# Altium footprint library Switch-Switch.PCBLIB: 4 footprints
Each footprint in its own frame and in the unit in brackets; x right, y up, seen from the top. Pads: shape width x height; smd on the part's side, far side on the other; paste and mask are expansions set on the pad; w line width, h text height; cw(c..) or ccw(c..) is an arc to the next point about the centre after c.
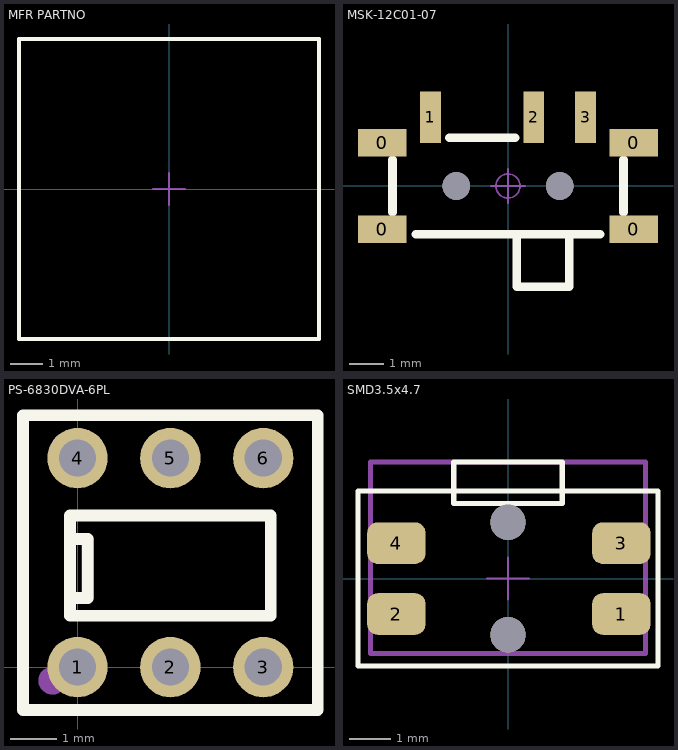
[diagram p0: the footprints below, top view; thin cyan lines are the x and y axes]

## MFR PARTNO [mm] "记得设置高度"
Top Overlay:
  lines w0.127: -4.7,-4.7 -4.7,4.7 4.7,4.7 4.7,-4.7 -4.7,-4.7
Top 元件外形:
  lines w0.127: -4.7,-4.7 4.7,-4.7 4.7,4.7 -4.7,4.7 -4.7,-4.7
Top 中心点:
  lines w0.051: -0.5,0 0.5,0 ; 0,-0.5 0,0.5

## MSK-12C01-07 [mm] "6.7*2.8*1.5mm(长宽高）"
height 1.5
pads (9):
  rect 1.4x0.8 smd: 0(-3.65,-1.25) 0(-3.65,1.25) 0(3.65,-1.25) 0(3.65,1.25)
  rect 0.6x1.5 smd: 1(-2.25,1.996) 2(0.75,1.996) 3(2.25,1.996)
  round 0.8 hole 0.8: " "(-1.5,0) " "(1.5,0)
Top Overlay:
  lines w0.254: -3.35,-0.762 -3.35,0.762 ; -2.667,-1.397 2.667,-1.397 ; -1.699,1.397 0.206,1.397 ; 0.254,-1.4 0.254,-2.921 1.778,-2.921 1.778,-1.4 ; 3.35,-0.762 3.35,0.762
Top 中心点:
  circle w0.05: c0,0 r0.35
  lines w0.05: -0.5,0 0.5,0 ; 0,-0.5 0,0.5
3D body "MSK-12C01-07.STEP": height 1.5, standoff -0.5, extent -3.92,-2.9 3.92,2.4

## PS-6830DVA-6PL [mm]
pads (6):
  round 1.3 hole 0.8 paste-2539.97 mask+0.05: 1(0,0) 2(2,0) 3(4,0) 4(0,4.5) 5(2,4.5) 6(4,4.5)
Top Overlay:
  lines w0.254: -0.159,1.488 0.222,1.488 0.222,2.758 -0.159,2.758 ; -1.175,-0.925 -1.175,5.425 5.175,5.425 5.175,-0.925 -1.175,-0.925 ; -0.159,1.107 -0.159,3.266 4.159,3.266 4.159,1.107 -0.159,1.107
V-Cut:
  circle w0.3: c-0.54,-0.29 r0.15
  region: -0.159,2.885 0.222,2.885 0.247,2.885 0.294,2.866 0.33,2.83 0.349,2.783 0.349,2.758 0.349,1.488 0.349,1.463 0.33,1.416 0.294,1.38 0.247,1.361 0.222,1.361 -0.159,1.361 -0.212,1.361 -0.286,1.435 -0.286,1.541 -0.212,1.615 -0.159,1.615 0.095,1.615 0.095,2.631 -0.159,2.631 -0.212,2.631 -0.286,2.705 -0.286,2.811 -0.212,2.885
M6:
  lines w0.051: -1.2,-0.95 5.2,-0.95 5.2,5.45 -1.2,5.45 -1.2,-0.95
M8:
  region: -1.14,-0.95 -1.14,-0.975 -1.175,-1.01 -1.225,-1.01 -1.26,-0.975 -1.26,-0.95 -1.26,-0.925 -1.225,-0.89 -1.175,-0.89 -1.14,-0.925
Top 中心点:
  lines w0.051: -0.5,0 0.5,0 ; 0,-0.5 0,0.5

## SMD3.5x4.7 [mm]
pads (6):
  rrect50% 1.4x1 smd mask+0.05: 1(2.721,-0.85) 2(-2.679,-0.85) 3(2.721,0.85) 4(-2.679,0.85)
  round 0.85 hole 0.85 unplated mask+0.05: ""(0,-1.35) ""(0,1.35)
Top Overlay:
  lines w0.127: -3.6,-2.1 -3.6,2.1 -1.3,2.1 1.3,2.1 3.6,2.1 3.6,-2.1 -3.6,-2.1 ; -1.3,1.8 -1.3,2.8 1.3,2.8 1.3,1.8 -1.3,1.8
Top 元件外形:
  lines w0.127: -3.302,-1.8 -3.302,2.8 3.302,2.8 3.302,-1.8 -3.302,-1.8
Top 中心点:
  lines w0.051: -0.5,0 0.5,0 ; 0,-0.5 0,0.5
3D body "xb-ts-1186d-x-a.stp": height 1.6, standoff -0.5, extent -3.2,-1.75 3.2,2.75